# Altium footprint library 600VDCDC.PcbLib: 39 footprints (part 2 of 3)
Each footprint in its own frame and in the unit in brackets; x right, y up, seen from the top. Pads: shape width x height; smd on the part's side, far side on the other; paste and mask are expansions set on the pad; w line width, h text height; cw(c..) or ccw(c..) is an arc to the next point about the centre after c.
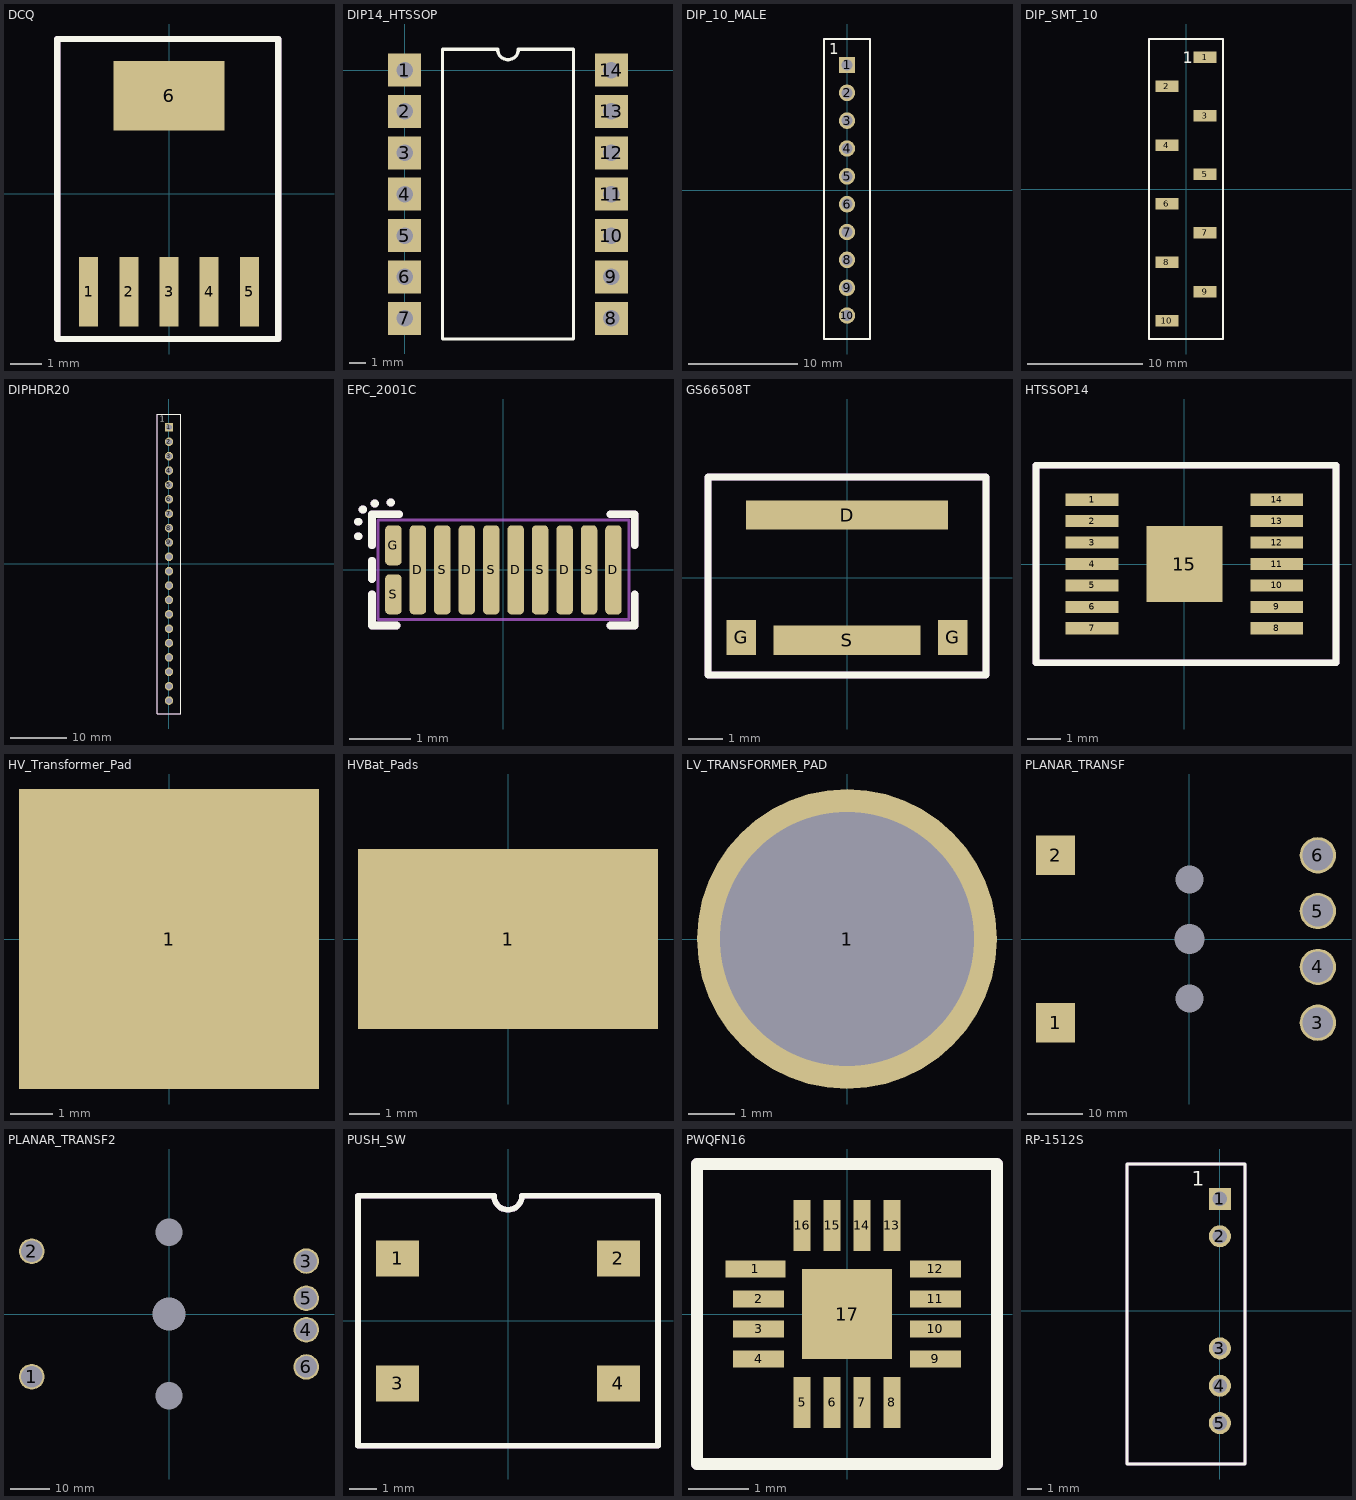
[diagram p1: the footprints below, top view; thin cyan lines are the x and y axes]

## DCQ [mm]
pads (6):
  rect 0.6x2.2 smd: 1(-2.54,-3.1) 2(-1.27,-3.1) 3(0,-3.1) 4(1.27,-3.1) 5(2.54,-3.1)
  rect 3.5x2.2 smd: 6(0,3.1)
Top Overlay:
  lines w0.2: -3.54,-4.59 -3.54,4.9 3.46,4.9 3.46,-4.59 -3.54,-4.59
Mechanical 29:
  lines w0.2: -3.54,-4.59 3.46,-4.59 3.46,4.9 -3.54,4.9 -3.54,-4.59
  text ".Designator" at -2.8,-0.2 h1
3D body "User Library-SOT-223-6.step": height 1.8, standoff 0, extent -3.275,-3.63 3.275,3.63

## DIP14_HTSSOP [mm]
pads (14):
  rect 2.03x2.03 hole 1.016: 1(0,0) 2(0,-2.54) 3(0,-5.08) 4(0,-7.62) 5(0,-10.16) 6(0,-12.7) 7(0,-15.24) 8(12.7,-15.24) 9(12.7,-12.7) 10(12.7,-10.16) 11(12.7,-7.62) 12(12.7,-5.08) 13(12.7,-2.54) 14(12.7,0)
Top Overlay:
  lines w0.2: 2.335,-16.51 2.335,1.27 5.715,1.27 ccw(c6.35,1.27) 6.985,1.27 10.365,1.27 10.365,-16.51 2.335,-16.51
Mechanical 29:
  text ".Designator" at 6.1,-2.5 h1

## DIP_10_MALE [mm]
pads (10):
  rect 1.5x1.5 hole 1: 1(0,11.43)
  round 1.5 hole 1: 2(0,8.89) 3(0,6.35) 4(0,3.81) 5(0,1.27) 6(0,-1.27) 7(0,-3.81) 8(0,-6.35) 9(0,-8.89) 10(0,-11.43)
Top Overlay:
  lines w0.2: -2.1,-13.57 -2.1,13.8 2.1,13.8 2.1,-13.57 -2.1,-13.57
  text "1" at -1.6,12.4 h1
Mechanical 29:
  lines w0.2: -2.1,-13.57 2.1,-13.57 2.1,13.8 -2.1,13.8 -2.1,-13.57
  text ".Designator" at -0.6,10.53 h1
  text "1" at -1.6,12.4 h1
3D body "_ _C10SAAN.step": height 8.39, standoff -3.04, extent -1.27,-12.67 1.27,12.73

## DIP_SMT_10 [mm]
pads (10):
  rect 2x1 smd: 1(1.65,11.43) 2(-1.65,8.89) 3(1.65,6.35) 4(-1.65,3.81) 5(1.65,1.27) 6(-1.65,-1.27) 7(1.65,-3.81) 8(-1.65,-6.35) 9(1.65,-8.89) 10(-1.65,-11.43)
Top Overlay:
  lines w0.2: -3.2,-13 -3.2,13 3.2,13 3.2,-13 -3.2,-13
  text "1" at -0.3,10.9 h1
Mechanical 29:
  lines w0.2: -3.2,-13 3.2,-13 3.2,13 -3.2,13 -3.2,-13
  text ".Designator" at -0.4,10 h1
  text "1" at -0.3,10.9 h1
3D body "_ _ _C101KFXC-RC.STEP": height 7.51, standoff 0.01, extent -2.1,-12.7 2.2,12.7

## DIPHDR20 [mm]
pads (20):
  rect 1.5x1.5 hole 1: 1(0,24.13)
  round 1.5 hole 1: 2(0,21.59) 3(0,19.05) 4(0,16.51) 5(0,13.97) 6(0,11.43) 7(0,8.89) 8(0,6.35) 9(0,3.81) 10(0,1.27) 11(0,-1.27) 12(0,-3.81) 13(0,-6.35) 14(0,-8.89) 15(0,-11.43) 16(0,-13.97) 17(0,-16.51) 18(0,-19.05) 19(0,-21.59) 20(0,-24.13)
Top Overlay:
  lines w0.2: -2.1,-26.5 2.1,-26.5 2.1,26.5 -2.1,26.5 -2.1,-26.5
  text "1" at -1.6,25.1 h1
Mechanical 29:
  lines w0.2: -2.1,-26.5 2.1,-26.5 2.1,26.5 -2.1,26.5 -2.1,-26.5
  text ".Designator" at -0.4,23.7 h1
  text "1" at -1.6,25.1 h1
3D body "m20-7822046_asm.stp": height 8.51, standoff -2.99, extent -1.25,-25.6 1.25,25.6

## EPC_2001C [mm]
pads (22):
  rrect50% 0.27x1.457 smd paste-0.048 mask-0.275: D(-1.4,0) D(-0.6,-0.001) D(0.2,-0.001) D(1,-0.001) D(1.8,-0.001) S(-1,-0.001) S(-0.2,-0.001) S(0.6,-0.001) S(1.4,-0.001)
  rrect50% 0.27x0.655 smd paste-0.048 mask-0.275: G(-1.8,0.401) S(-1.8,-0.401)
  oval 0.18x0.56 on Top Solder: ""(-1.8,-0.4) ""(-1.8,0.4)
  oval 0.18x1.362 on Top Solder: ""(-1.4,0) ""(-1,0) ""(-0.6,0) ""(-0.2,0) ""(0.2,0) ""(0.6,0) ""(1,0) ""(1.4,0) ""(1.8,0)
Top Overlay:
  lines w0.127: -2.38,0.55 -2.37,0.55 ; -2.38,0.785 -2.37,0.785 ; -2.305,0.985 -2.295,0.985 ; -2.15,-0.4 -2.15,-0.91 -1.75,-0.91 ; -2.15,-0.15 -2.15,0.15 ; -2.15,0.4 -2.15,0.91 -1.71,0.91 ; -2.11,1.085 -2.1,1.085 ; -1.85,1.1 -1.84,1.1 ; 1.75,-0.91 2.15,-0.91 2.15,-0.4 ; 1.75,0.91 2.15,0.91 2.15,0.4
Mechanical 13:
  lines w0.05: -2.052,-0.816 -2.052,0.816 2.053,0.816 2.053,-0.816 -2.052,-0.816
Mechanical 29:
  lines w0.127: -2.38,0.55 -2.37,0.55 ; -2.38,0.785 -2.37,0.785 ; -2.305,0.985 -2.295,0.985 ; -2.15,-0.4 -2.15,-0.91 -1.75,-0.91 ; -2.15,-0.15 -2.15,0.15 ; -2.15,0.4 -2.15,0.91 -1.71,0.91 ; -2.11,1.085 -2.1,1.085 ; -1.85,1.1 -1.84,1.1 ; 1.75,-0.91 2.15,-0.91 2.15,-0.4 ; 1.75,0.91 2.15,0.91 2.15,0.4
  text ".Designator" at -1.7,-0.3 h0.6
3D body: height 0.81, standoff 0.1, extent -2.052,-0.816 2.053,0.816
3D body: height 0.85, standoff 0.15, extent -1.949,0.251 -1.65,0.551

## GS66508T [mm]
pads (4):
  rect 5.81x0.84 smd: D(0,1.8)
  rect 0.84x1 smd: G(-3.04,-1.72) G(3.04,-1.72)
  rect 4.24x0.84 smd: S(0,-1.8)
Top Overlay:
  lines w0.2: -4,-2.8 4,-2.8 4,2.9 -4,2.9 -4,-2.8
Mechanical 29:
  lines w0.2: -4,-2.8 -4,2.9 4,2.9 4,-2.8 -4,-2.8
  text ".Designator" at -3.4,-0.4 h1
3D body "GS66508T.STEP": height 0.55, standoff 0.01, extent -3.468,-2.26 3.468,2.2

## HTSSOP14 [mm]
pads (15):
  rect 1.6x0.37 smd: 1(-2.8,1.95) 2(-2.8,1.3) 3(-2.8,0.65) 4(-2.8,0) 5(-2.8,-0.65) 6(-2.8,-1.3) 7(-2.8,-1.95) 8(2.8,-1.95) 9(2.8,-1.3) 10(2.8,-0.65) 11(2.8,0) 12(2.8,0.65) 13(2.8,1.3) 14(2.8,1.95)
  rect 2.3x2.3 smd paste-0.1: 15(0,0)
Top Overlay:
  lines w0.2: -4.5,-3 4.6,-3 4.6,3 -4.5,3 -4.5,-3
Mechanical 29:
  lines w0.2: -4.5,-3 4.6,-3 4.6,3 -4.5,3 -4.5,-3
  text ".Designator" at -3.9,-2.1 h1
3D body "User Library-HTSSOP14.step": height 1.1, standoff 0, extent -3.191,-2.491 3.191,2.491

## HV_Transformer_Pad [mm]
pads (1):
  rect 7x7 smd: 1(0,0)

## HVBat_Pads [mm]
pads (1):
  rect 10x6 smd: 1(0,0)

## LV_TRANSFORMER_PAD [mm]
pads (1):
  round 6.5 hole 5.5: 1(0,0)

## PLANAR_TRANSF [mm]
pads (9):
  rect 7x7 smd: 1(-24,-15) 2(-24,15)
  round 6.5 hole 5.5: 3(23,-15) 4(23,-5) 5(23,5) 6(23,15)
  round 0 hole 5 square unplated: ""(0,-10.65) ""(0,10.65)
  round 0 hole 5.3 square unplated: ""(0,0)
3D body "FerriteCore.stp": height 3.95, standoff -4.25, extent -7.9,-10.9 7.9,10.9

## PLANAR_TRANSF2 [mm]
pads (9):
  round 6.5 hole 5.5: 1(-35,-16) 2(-35,16) 3(35,13.5) 4(35,-4) 5(35,4) 6(35,-13.5)
  round 0 hole 7 square unplated: ""(0,-20.8) ""(0,20.8)
  round 0 hole 8.4 square unplated: ""(0,0)
3D body "c61036-a0299-c001_ELP43wc.stp": height 8, standoff -1.5, extent -13.95,-21.6 13.95,21.6

## PUSH_SW [mm]
pads (4):
  rect 1.55x1.3 smd: 1(-3.975,2.25) 2(3.975,2.25) 3(-3.975,-2.25) 4(3.975,-2.25)
Top Overlay:
  lines w0.2: -5.4,-4.5 5.4,-4.5 5.4,4.5 0.5,4.5 cw(c0,4.5) -0.5,4.5 -5.4,4.5 -5.4,-4.5
Mechanical 29:
  lines w0.2: -5.4,-4.5 5.4,-4.5 5.4,4.5 0.5,4.5 cw(c0,4.5) -0.5,4.5 -5.4,4.5 -5.4,-4.5
  text ".Designator" at -4.4,-0.3 h1
3D body "PTS645SL50SMTR92LFS.stp": height 5.01, standoff 0.01, extent -4.5,-3 4.5,3.002

## PWQFN16 [mm]
pads (17):
  rect 1x0.28 smd: 1(-1.525,0.75)
  rect 0.85x0.28 smd: 2(-1.475,0.25) 3(-1.475,-0.25) 4(-1.475,-0.75) 9(1.475,-0.75) 10(1.475,-0.25) 11(1.475,0.25) 12(1.475,0.75)
  rect 0.28x0.85 smd: 5(-0.75,-1.475) 6(-0.25,-1.475) 7(0.25,-1.475) 8(0.75,-1.475) 13(0.75,1.475) 14(0.25,1.475) 15(-0.25,1.475) 16(-0.75,1.475)
  rect 1.5x1.5 smd: 17(0,0)
Top Overlay:
  lines w0.2: -2.5,-2.5 2.5,-2.5 2.5,2.5 -2.5,2.5 -2.5,-2.5
Mechanical 29:
  lines w0.2: -2.5,-2.5 -2.5,2.5 2.5,2.5 2.5,-2.5 -2.5,-2.5
  text ".Designator" at -2,-0.3 h0.6
3D body "User Library-S-PWQFN-N16.step": height 0.75, standoff -0.05, extent -1.51,-1.51 1.51,1.51

## RP-1512S [mm]
pads (5):
  rect 1.5x1.5 hole 1: 1(0,7.62)
  round 1.5 hole 1: 2(0,5.08) 3(0,-2.54) 4(0,-5.08) 5(0,-7.62)
Top Overlay:
  lines w0.2: -6.3,-10.4 -6.3,9.99 1.7,9.99 1.7,-10.4 -6.3,-10.4
  text "1" at -1.9,8.5 h1
Mechanical 29:
  lines w0.2: -6.3,-10.4 1.7,-10.4 1.7,9.99 -6.3,9.99 -6.3,-10.4
  text ".Designator" at -3.7,8.7 h1
  text "1" at -1.9,8.5 h1
3D body "User Library-RECOM RPseries.step": height 10.21, standoff -3.49, extent -5.835,-10.025 1.225,9.625